# Altium schematic symbol library Passive components.SchLib: 13 symbols
Pins are listed as number, name and electrical type; pins without a type are passive.

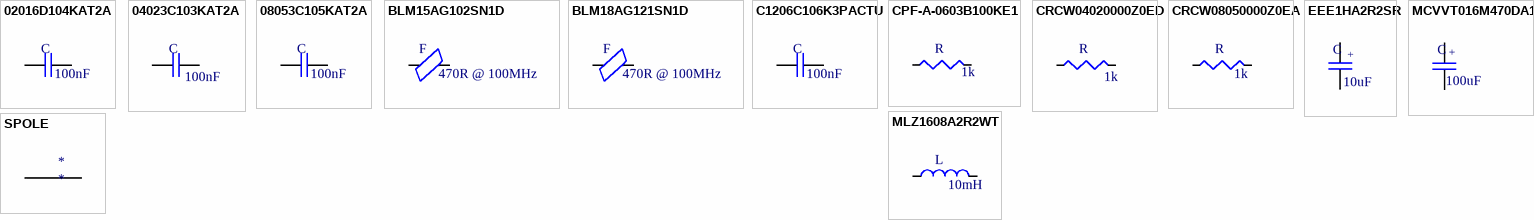
[diagram p0: symbols 02016D104KAT2A to SPOLE]

## 02016D104KAT2A
designator C  value 100nF
C0603
footprint C0603
pins: 1, 2

## 04023C103KAT2A
designator C  value 100nF
C0402
footprint C0402
pins: 1, 2

## 08053C105KAT2A
designator C  value 100nF
C0805
footprint C0805
pins: 1, 2

## BLM15AG102SN1D
designator F  value 470R @ 100MHz
Ferrite bead 0402
footprint Ferrite bead 0402
pins: 1, 2

## BLM18AG121SN1D
designator F  value 470R @ 100MHz
Ferrite bead 0603
footprint Ferrite bead 0603
pins: 1, 2

## C1206C106K3PACTU
designator C  value 100nF
C1206
footprint C1206
pins: 1, 2

## CPF-A-0603B100KE1
designator R  value 1k
R0603
footprint R0603
pins: 1, 2

## CRCW04020000Z0ED
designator R  value 1k
R0402
footprint R0402
pins: 1, 2

## CRCW08050000Z0EA
designator R  value 1k
R0805
footprint R0805
pins: 1, 2

## EEE1HA2R2SR
designator C  value 10uF
El. Capacitor SMD 4x5.4
footprint Capacitor electrolytic SMD 4x5.4 (Aluminum Electrolytic Capacitor, Body 4.30x4.30x5.40mm, IPC Low Density)
pins: 1, 2
text: +

## MCVVT016M470DA1L
designator C  value 100uF
El. Capacitor SMD 5x5.4
footprint Capacitor electrolytic SMD 5x5.4 (Aluminum Electrolytic Capacitor, Body 5.30x5.30x5.40mm, IPC Low Density)
pins: 1, 2
text: +

## MLZ1608A2R2WT
designator L  value 10mH
Inductor 0603
footprint Inductor 0603
pins: 1, 2

## SPOLE
designator *
footprint PCBComponent_1
pins: 1 (power) "VCC", 2 (power) "VCC"